# Altium footprint library PCB_stm32.PcbLib: 28 footprints (part 2 of 2)
Each footprint in its own frame and in the unit in brackets; x right, y up, seen from the top. Pads: shape width x height; smd on the part's side, far side on the other; paste and mask are expansions set on the pad; w line width, h text height; cw(c..) or ccw(c..) is an arc to the next point about the centre after c.
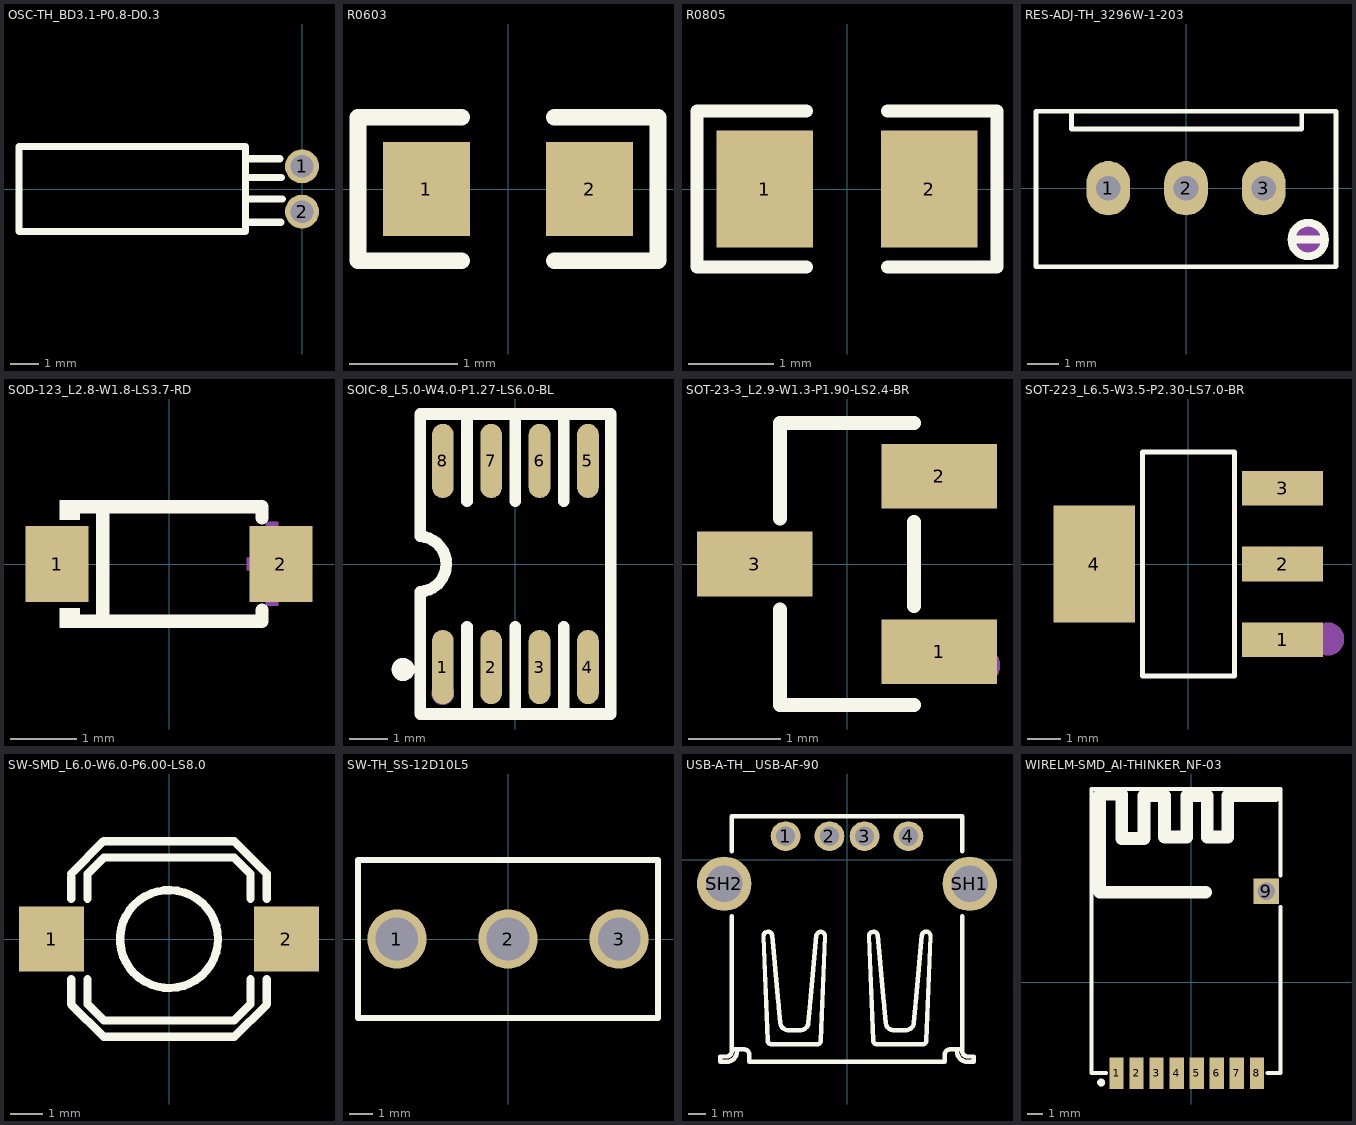
[diagram p1: the footprints below, top view; thin cyan lines are the x and y axes]

## OSC-TH_BD3.1-P0.8-D0.3 [mm]
pads (2):
  round 1.2 hole 0.8 mask+0.051: 1(0,0.8) 2(0,-0.8)
Top Overlay:
  lines w0.254: -2,-1.177 -0.74,-1.177 ; -2,-0.35 -0.698,-0.35 ; -2,0.403 -0.73,0.403 ; -2,1.071 -0.786,1.071 ; -10,-1.5 -2,-1.5 -2,1.5 -10,1.5 -10,-1.5
Bottom Overlay:
  lines w0.305: -0.254,0 0.254,0

## R0603 [mm]
pads (2):
  rect 0.806x0.864 smd: 1(-0.753,0) 2(0.753,0)
Top Overlay:
  lines w0.152: -0.426,-0.661 -1.385,-0.661 -1.385,0.661 -0.426,0.661 ; 0.426,-0.661 1.385,-0.661 1.385,0.661 0.426,0.661
Top Paste:
  region: -0.355,0.4 -0.355,0.172 -0.735,0.172 -0.735,-0.158 -0.355,-0.158 -0.355,-0.4 -0.405,-0.45 -1.195,-0.45 -1.245,-0.4 -1.245,0.4 -1.195,0.45 -0.405,0.45
  region: 1.195,0.45 0.395,0.45 0.345,0.4 0.345,0.172 0.715,0.172 0.715,-0.158 0.345,-0.158 0.345,-0.4 0.395,-0.45 1.195,-0.45 1.245,-0.4 1.245,0.4

## R0805 [mm]
pads (2):
  rect 1.133x1.377 smd: 1(-0.966,0) 2(0.966,0)
Top Overlay:
  lines w0.152: -0.476,-0.917 -1.761,-0.917 -1.761,0.917 -0.476,0.917 ; 0.476,-0.917 1.761,-0.917 1.761,0.917 0.476,0.917
Top Paste:
  region: -1.7,-0.64 -1.7,0.64 -1.65,0.69 -0.5,0.69 -0.45,0.64 -0.445,0.23 -0.895,0.23 -0.895,-0.22 -0.455,-0.22 -0.45,-0.64 -0.5,-0.69 -1.65,-0.69
  region: 0.45,-0.64 0.45,-0.22 0.895,-0.22 0.895,0.23 0.455,0.23 0.45,0.64 0.5,0.69 1.65,0.69 1.7,0.64 1.7,-0.64 1.65,-0.69 0.5,-0.69

## RES-ADJ-TH_3296W-1-203 [mm]
pads (3):
  oval 1.4x1.75 hole 0.8: 1(-2.5,0) 2(0,0) 3(2.5,0)
Top Overlay:
  lines w0.152: -3.699,2.476 -3.683,2.476 -3.683,2.032 -3.683,1.905 3.727,1.905 3.727,2.476 ; -4.826,-2.526 -4.826,2.476 4.826,2.476 4.826,-2.526 -4.826,-2.526
  lines w0.254: 3.551,-1.645 3.932,-1.645 ; 4.471,-1.656 cw(c3.932,-1.651) 4.471,-1.645 ; 3.932,-1.645 4.313,-1.645 3.932,-1.645
Mechanical 15:
  circle w0.6: c3.932,-1.646 r0.3

## SOD-123_L2.8-W1.8-LS3.7-RD [mm]
pads (2):
  rect 0.95x1.15 smd: 1(-1.693,0) 2(1.693,0)
Top Overlay:
  region: -1.346,-0.96 -1.346,-0.665 -1.651,-0.665 -1.651,-0.96
  region: -1.346,0.96 -1.346,0.665 -1.651,0.665 -1.651,0.96
  lines w0.203: -1.406,-0.866 1.406,-0.866 1.406,-0.698 ; -1.406,0.866 1.406,0.866 1.406,0.698 ; -0.998,-0.866 -0.998,0.866
Mechanical 15:
  region: 1.651,0.635 1.651,-0.629 1.461,-0.629 1.461,0.635
  region: 1.935,0.098 1.935,-0.092 1.177,-0.092 1.177,0.098
  region: -2.03,0.095 -2.03,-0.095 -1.272,-0.095 -1.272,0.095

## SOIC-8_L5.0-W4.0-P1.27-LS6.0-BL [mil]
pads (8):
  oval 22.38x76.78 smd: 1(-75,-106.5) 2(-25,-106.5) 3(25,-106.5) 4(75,-106.5) 5(75,106.5) 6(25,106.5) 7(-25,106.5) 8(-75,106.5)
Top Overlay:
  circle w12: c-116,-109 r5.91
  lines w12: -98.43,-28.61 ccw(c-99.99,0) -98.23,28.59 ; -98.42,-28.61 -98.42,-59.05 -98.42,-75 -98.42,-155 98.42,-155 98.42,-75 98.42,-59.05 98.42,59.05 98.42,75 98.42,155 -98.42,155 -98.42,75 -98.42,59.05 -98.42,28.59 ; -50,-155 -50,-65 ; -50,65 -50,155 ; 0,-155 0,-65 ; 0,65 0,155 ; 50,-155 50,-65 ; 50,65 50,155
Mechanical 15:
  circle w11.81: c-75,-133.86 r5.91

## SOT-23-3_L2.9-W1.3-P1.90-LS2.4-BR [mm]
pads (3):
  rect 1.25x0.7 smd: 1(1,-0.95) 2(1,0.95) 3(-1,0)
Top Overlay:
  lines w0.152: -0.726,-0.495 -0.726,-1.526 0.726,-1.526 ; -0.726,0.495 -0.726,1.526 0.726,1.526 ; 0.726,-0.455 0.726,0.455
Mechanical 15:
  circle w0.2: c1.46,-1.1 r0.1

## SOT-223_L6.5-W3.5-P2.30-LS7.0-BR [mm]
pads (4):
  rect 2.465x1.05 smd: 1(2.857,-2.3) 2(2.857,0) 3(2.857,2.3)
  rect 2.465x3.54 smd: 4(-2.857,0)
Top Overlay:
  lines w0.152: -1.396,-3.401 1.396,-3.401 1.396,3.401 -1.396,3.401 -1.396,-3.401
Mechanical 15:
  circle w0.5: c4.229,-2.277 r0.25

## SW-SMD_L6.0-W6.0-P6.00-LS8.0 [mm]
pads (2):
  rect 2x2 smd: 1(-3.601,0) 2(3.601,0)
Top Overlay:
  circle w0.254: c0.002,-0.002 r1.502
  lines w0.254: -3,-1.231 -3,-2.001 -1.999,-3 2.001,-3 2.999,-2.001 2.999,-1.231 ; -3,1.231 -3,1.892 ; -3,1.999 -2.002,3 -1.502,3 2.001,3 2.999,1.999 2.999,1.231 ; -2.5,-1.231 -2.5,-2 -2,-2.5 2,-2.5 2.5,-2 2.5,-1.231 ; -2.5,1.231 -2.5,2 -2,2.5 2,2.5 2.5,2 2.5,1.231

## SW-TH_SS-12D10L5 [mm]
pads (3):
  round 2.5 hole 1.8: 1(-4.7,0) 2(0,0) 3(4.7,0)
Top Overlay:
  lines w0.254: -6.35,-3.35 6.35,-3.35 6.35,3.35 -6.35,3.35 -6.35,-3.35

## USB-A-TH__USB-AF-90 [mm]
pads (6):
  round 1.7 hole 1.1: 1(-3.5,1.355) 2(-1,1.355) 3(1,1.355) 4(3.5,1.355)
  round 3.1 hole 2.1: SH1(7,-1.355) SH2(-7,-1.355)
Top Overlay:
  drawing of 192 lines, arcs and shapes, not listed

## WIRELM-SMD_AI-THINKER_NF-03 [mm]
pads (9):
  rect 0.9x2 smd mask+0.051: 1(-4.741,-5.761) 2(-3.471,-5.761) 3(-2.201,-5.761) 4(-0.931,-5.761) 5(0.339,-5.761) 6(1.609,-5.761) 7(2.879,-5.761) 8(4.149,-5.761)
  rect 1.6x1.6 hole 1.1: 9(4.74,5.762)
Top Overlay:
  circle w0.305: c-5.715,-6.35 r0.1
  lines w0.254: -5.422,-5.761 -6.341,-5.761 -6.341,12.238 5.659,12.238 5.659,6.759 ; 4.831,-5.761 5.659,-5.761 5.659,4.764
  lines w0.8: 0.901,5.699 -5.8,5.699 -5.8,11.599 -5.8,11.899 -4.4,11.899 -4.4,9.1 -3.001,9.1 -3.001,11.8 -1.7,11.8 -1.7,9.199 ; 5.3,11.8 2.3,11.8 2.3,9.2 1,9.2 1,11.8 -0.301,11.8 -0.301,9.199 -1.7,9.199 ; -1.7,9.199 -1.7,9.2 -1.7,9.199